# Altium schematic symbol library JRC4558.SchLib: 1 symbol
Pins are listed as number, name and electrical type; pins without a type are passive.

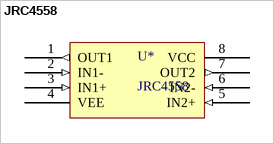
[diagram p0: symbol JRC4558]

## JRC4558
designator U*
footprint JRC4558 (SOIC, 8-Leads, Body 5,20x4,50mm, Pitch 1,27mm, IPC Medium Density)
pins: 1 OUT1 (out), 2 IN1- (in), 3 IN1+ (in), 4 VEE, 5 IN2+ (in), 6 IN2- (in), 7 OUT2 (out), 8 VCC (power)